# EAGLE library part ADC (library Parts)
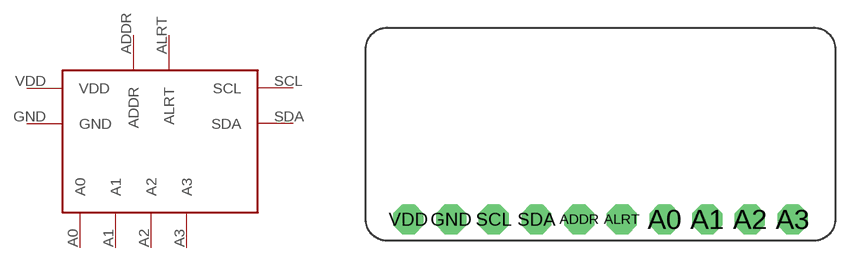
[diagram p6: symbol with the pads of ADC; footprint ADC]

Designator prefix -

## ADC  [ADC]
A0  A0
A1  A1
A2  A2
A3  A3
ADDR  ADDR
ALRT  ALRT
GND  GND
SCL  SCL
SDA  SDA
VDD  VDD

## Footprint ADC (pad centres in mm)
drill 0.8 pad 1.778 octagon: A0 3.81,0; A1 6.35,0; A2 8.89,0; A3 11.43,0; ADDR -1.27,0; ALRT 1.27,0; GND -8.89,0; SCL -6.35,0; SDA -3.81,0; VDD -11.43,0